# EAGLE library part BC (library bluecontroller)
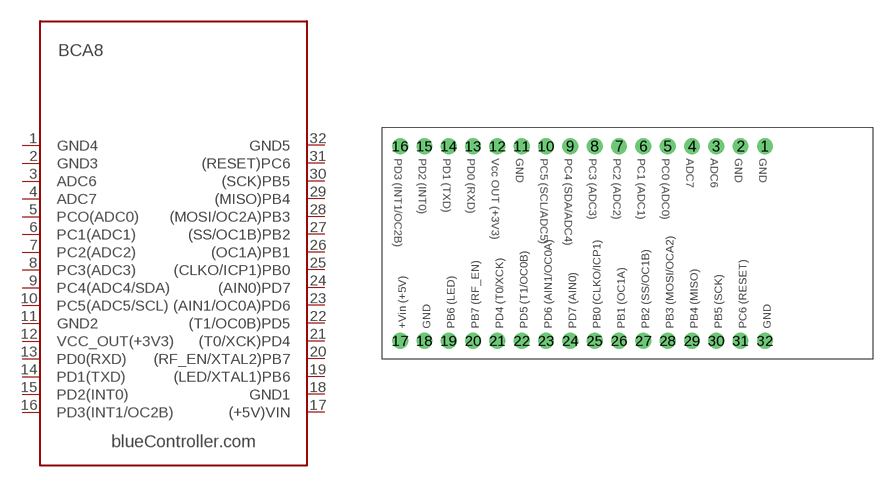
[diagram p0: symbol with the pads of BC; footprint BC]

Designator prefix -

## BC  [BC]
1  GND4
2  GND3
3  ADC6
4  ADC7
5  PCO(ADC0)
6  PC1(ADC1)
7  PC2(ADC2)
8  PC3(ADC3)
9  PC4(ADC4/SDA)
10  PC5(ADC5/SCL)
11  GND2
12  VCC_OUT(+3V3)
13  PD0(RXD)
14  PD1(TXD)
15  PD2(INT0)
16  PD3(INT1/OC2B)
17  (+5V)VIN
18  GND1
19  (LED/XTAL1)PB6
20  (RF_EN/XTAL2)PB7
21  (T0/XCK)PD4
22  (T1/OC0B)PD5
23  (AIN1/OC0A)PD6
24  (AIN0)PD7
25  (CLKO/ICP1)PB0
26  (OC1A)PB1
27  (SS/OC1B)PB2
28  (MOSI/OC2A)PB3
29  (MISO)PB4
30  (SCK)PB5
31  (RESET)PC6
32  GND5

## Footprint BC (pad centres in mm)
drill 1.1: 1 15.875,10.16; 2 13.335,10.16; 3 10.795,10.16; 4 8.255,10.16; 5 5.715,10.16; 6 3.175,10.16; 7 0.635,10.16; 8 -1.905,10.16; 9 -4.445,10.16; 10 -6.985,10.16; 11 -9.525,10.16; 12 -12.065,10.16; 13 -14.605,10.16; 14 -17.145,10.16; 15 -19.685,10.16; 16 -22.225,10.16; 17 -22.225,-10.16; 18 -19.685,-10.16; 19 -17.145,-10.16; 20 -14.605,-10.16; 21 -12.065,-10.16; 22 -9.525,-10.16; 23 -6.985,-10.16; 24 -4.445,-10.16; 25 -1.905,-10.16; 26 0.635,-10.16; 27 3.175,-10.16; 28 5.715,-10.16; 29 8.255,-10.16; 30 10.795,-10.16; 31 13.335,-10.16; 32 15.875,-10.16